# EAGLE library part SN74LVC2G34 (library toyotune)
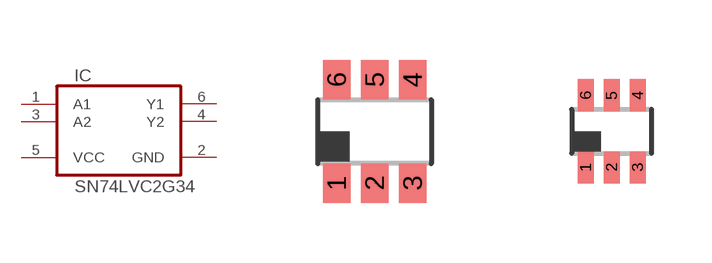
[diagram p41: symbol with the pads of DBV_R-PDSO-G6; footprints DBV_R-PDSO-G6, DCK_R-PDSO-G6]

Designator prefix IC

## SN74LVC2G34DBVR  [DBV_R-PDSO-G6]
1  A1  in
2  GND  pwr
3  A2  in
4  Y2  out
5  VCC  pwr
6  Y1  out

## SN74LVC2G34DCKR  [DCK_R-PDSO-G6]
Pads as for DBV_R-PDSO-G6

## SN74LVC2G34DRLR  [DRL_R-PDSO-N6]
Pads as for DBV_R-PDSO-G6

## Footprint DBV_R-PDSO-G6 (pad centres in mm)
DBV (R-PDSO-G6) PLASTIC SMALL-OUTLINE PACKAGE SOT (SOT-23) - DBV Source: http://focus.ti.com/lit/ds/symlink/sn74lvc1g3157.
smd 0.69 x 0.99: 1 -0.95,-1.29; 2 0,-1.29; 3 0.95,-1.29; 4 0.95,1.3; 5 0,1.3; 6 -0.95,1.3

## Footprint DCK_R-PDSO-G6 (pad centres in mm)
DCK (R-PDSO-G6) PLASTIC SMALL-OUTLINE PACKAGE SOT (SC-70) - DCK Source: http://focus.ti.com/lit/ds/symlink/sn74lvc1g3157.
smd 0.4 x 0.8: 1 -0.65,-0.9; 2 0,-0.9; 3 0.65,-0.9; 4 0.65,0.9; 5 0,0.9; 6 -0.65,0.9

## Footprint DRL_R-PDSO-N6 (pad centres in mm)
DRL (R-PDSO-N6) PLASTIC SMALL OUTLINE SOT (SOT-553) - DRL Source: http://focus.ti.com/lit/ds/symlink/sn74lvc1g3157.pdf
smd 0.35 x 0.55: 1 -0.5,-0.675; 2 0,-0.675; 3 0.5,-0.675; 4 0.5,0.675; 5 0,0.675; 6 -0.5,0.675